# Altium integrated library AD封装库.IntLib: 3 symbols
Pins are listed as number, name and electrical type; pins without a type are passive.

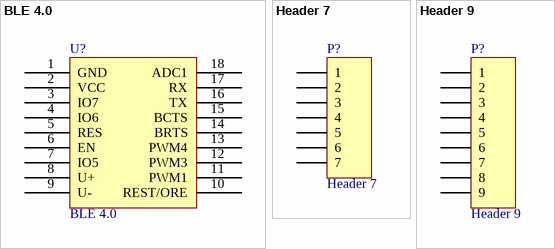
[diagram p0: symbols BLE 4.0 to Header 9]

## BLE 4.0
designator U?
footprint BLE4.0
pins: 1 GND, 2 VCC, 3 IO7, 4 IO6, 5 RES, 6 EN, 7 IO5, 8 U+, 9 U-, 10 REST/ORE, 11 PWM1, 12 PWM3, 13 PWM4, 14 BRTS, 15 BCTS, 16 TX, 17 RX, 18 ADC1

## Header 7
designator P?
Header, 7-Pin; LatestRevisionDate: 17-Jul-2002; LatestRevisionNote: Re-released for DXP Platform.; Publisher: Altium Limited
footprint CON1X7
signal-integrity model Connector
pins: 1, 2, 3, 4, 5, 6, 7

## Header 9
designator P?
Header, 9-Pin; LatestRevisionDate: 17-Jul-2002; LatestRevisionNote: Re-released for DXP Platform.; Publisher: Altium Limited
signal-integrity model Connector
footprint CON1X9
pins: 1, 2, 3, 4, 5, 6, 7, 8, 9